# Altium footprint library 12.5x12.5.PcbLib: 1 footprints
Each footprint in its own frame and in the unit in brackets; x right, y up, seen from the top. Pads: shape width x height; smd on the part's side, far side on the other; paste and mask are expansions set on the pad; w line width, h text height; cw(c..) or ccw(c..) is an arc to the next point about the centre after c.
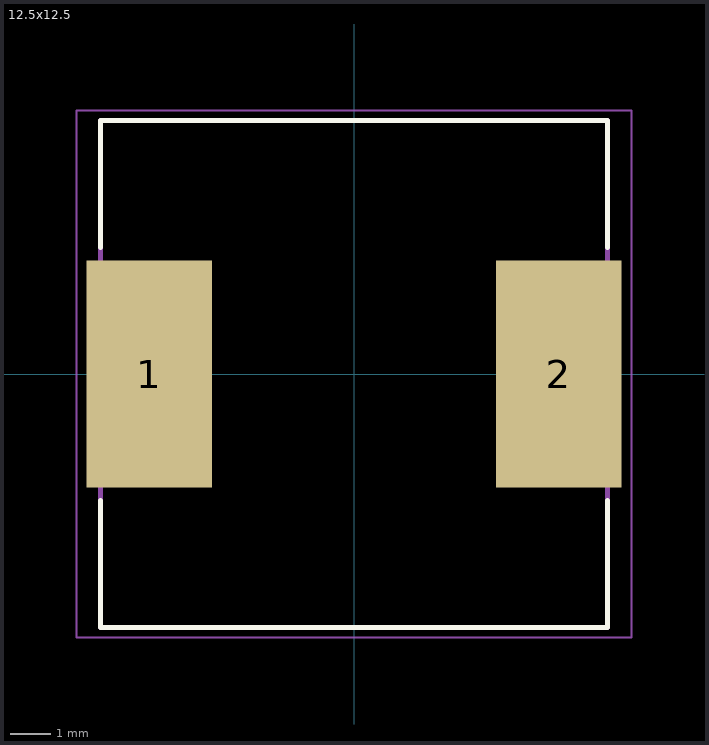
[diagram p0: the footprint, top view; thin cyan lines are the x and y axes]

## 12.5x12.5 [mm]
height 8.5
pads (2):
  rect 3.1x5.6 smd: 1(-5.05,0) 2(5.05,0)
Top Overlay:
  lines w0.127: -6.25,-3.12 -6.25,-6.25 6.25,-6.25 6.25,-3.12 ; -6.25,3.12 -6.25,6.25 6.25,6.25 6.25,3.12
Mechanical 13:
  lines w0.127: -6.25,-6.25 6.25,-6.25 6.25,6.25 -6.25,6.25 -6.25,-6.25
Mechanical 15:
  lines w0.05: -6.85,-6.5 6.85,-6.5 6.85,6.5 -6.85,6.5 -6.85,-6.5
3D body "B82477R4683M100.STEP": height 8.5, standoff 0, extent -6.25,-6.25 6.25,6.25